# Altium schematic symbol library 2020-06-19_11-14-03.SchLib: 2 symbols
Pins are listed as number, name and electrical type; pins without a type are passive.

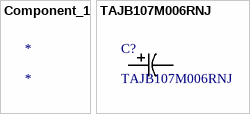
[diagram p0: symbols Component_1 to TAJB107M006RNJ]

## Component_1
designator *

## TAJB107M006RNJ
designator C?
No Description Available; Vendor: AVX Corporation; Built_By: EMA_UL_Team; SourceLibrary: AVX_2015-1-12; Type: DEV; Manufacturer_Part_Number: TAJB107M006RNJ; Copyright: Copyright (C) 2018 Accelerated Designs. All rights reserved; RefDes: RefDes
footprint TAJB_AVX
pins: 1 11, 2 12